# Altium footprint library ATK-2014-09-12.PcbLib: 436 footprints (part 15 of 28)
Each footprint in its own frame and in the unit in brackets; x right, y up, seen from the top. Pads: shape width x height; smd on the part's side, far side on the other; paste and mask are expansions set on the pad; w line width, h text height; cw(c..) or ccw(c..) is an arc to the next point about the centre after c.
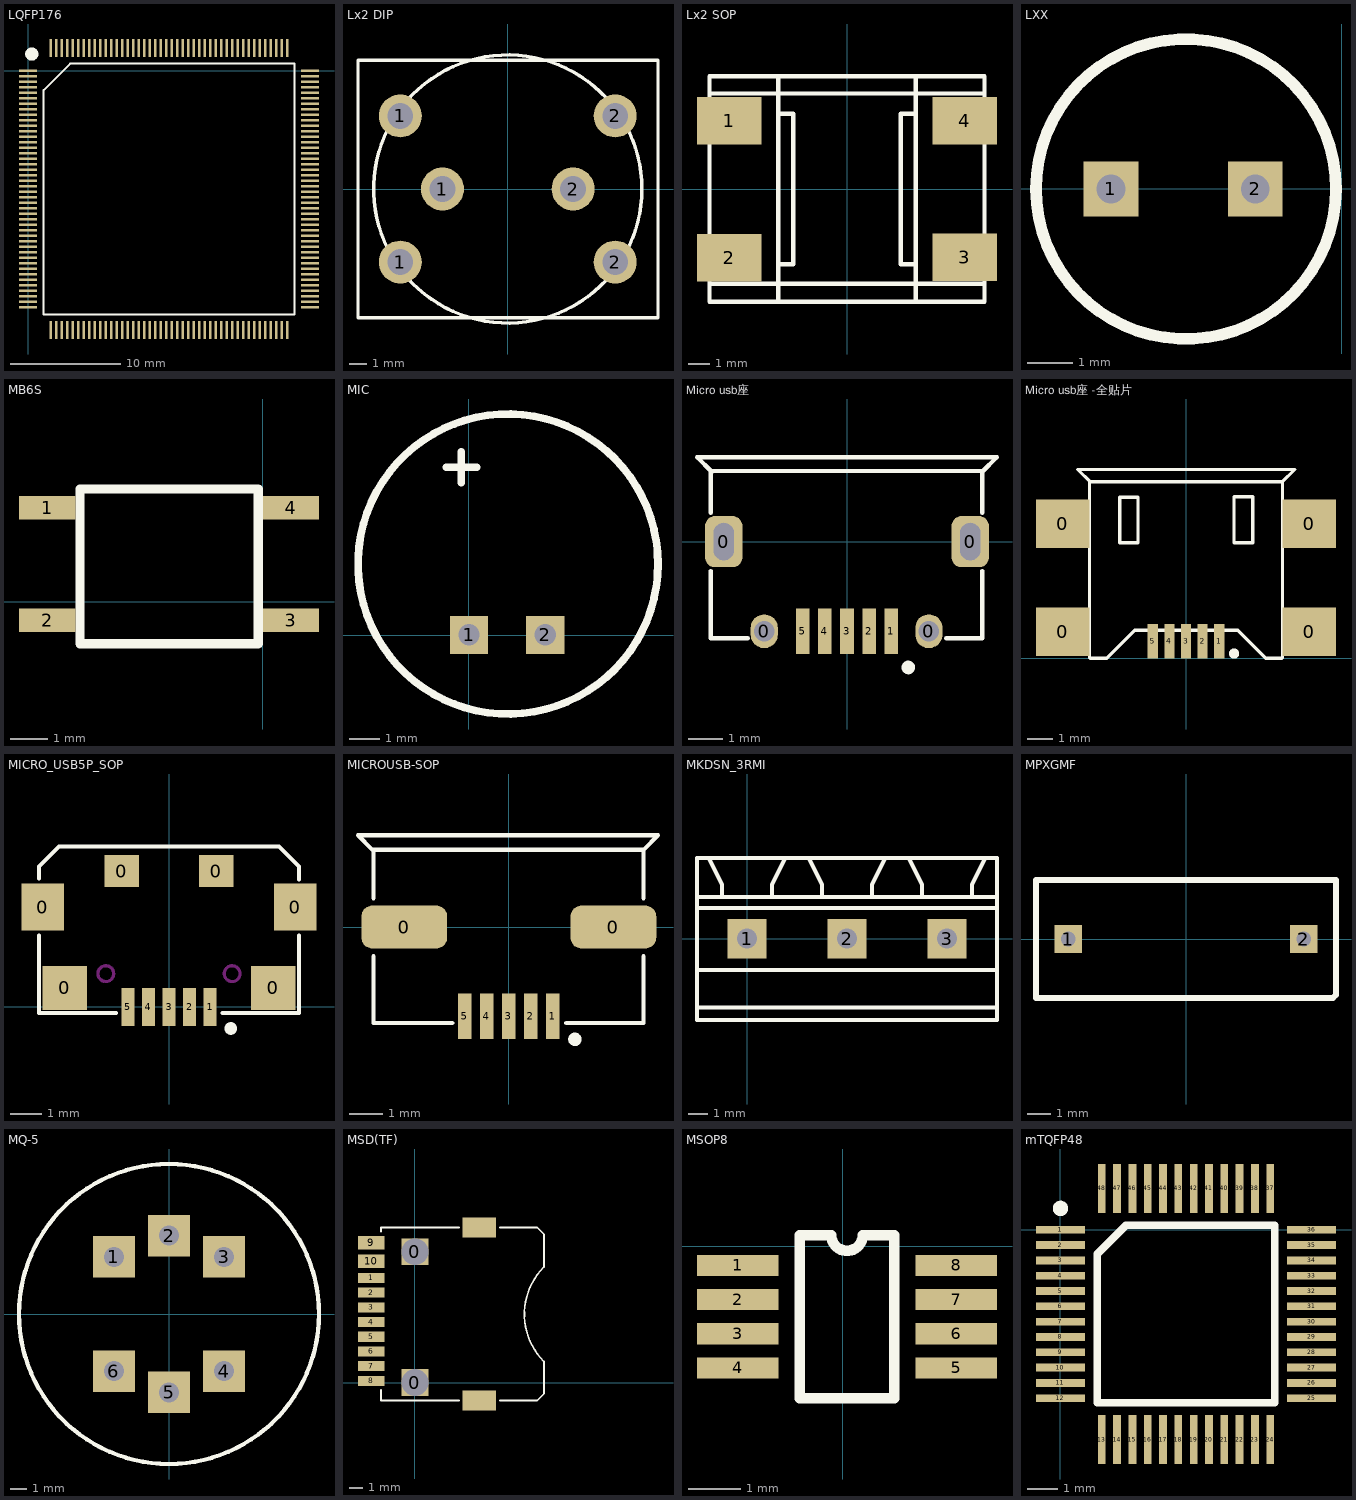
[diagram p14: the footprints below, top view; thin cyan lines are the x and y axes]

## LQFP176 [mm] "TSQFP, 176-Leads, Body 26.1x26.1mm (max), Pitch 0.50mm, IPC Medium Density"
height 1.6
pads (176):
  rect 1.65x0.254 smd: 1(0,0) 2(0,-0.5) 3(0,-1) 4(0,-1.5) 5(0,-2) 6(0,-2.5) 7(0,-3) 8(0,-3.5) 9(0,-4) 10(0,-4.5) 11(0,-5) 12(0,-5.5) 13(0,-6) 14(0,-6.5) 15(0,-7) 16(0,-7.5) 17(0,-8) 18(0,-8.5) 19(0,-9) 20(0,-9.5) 21(0,-10) 22(0,-10.5) 23(0,-11) 24(0,-11.5) 25(0,-12) 26(0,-12.5) 27(0,-13) 28(0,-13.5) 29(0,-14) 30(0,-14.5) 31(0,-15) 32(0,-15.5) 33(0,-16) 34(0,-16.5) 35(0,-17) 36(0,-17.5) 37(0,-18) 38(0,-18.5) 39(0,-19) 40(0,-19.5) 41(0,-20) 42(0,-20.5) 43(0,-21) 44(0,-21.5) 89(25.631,-21.5) 90(25.631,-21) 91(25.631,-20.5) 92(25.631,-20) 93(25.631,-19.5) 94(25.631,-19) 95(25.631,-18.5) 96(25.631,-18) 97(25.631,-17.5) 98(25.631,-17) 99(25.631,-16.5) 100(25.631,-16) 101(25.631,-15.5) 102(25.631,-15) 103(25.631,-14.5) 104(25.631,-14) 105(25.631,-13.5) 106(25.631,-13) 107(25.631,-12.5) 108(25.631,-12) 109(25.631,-11.5) 110(25.631,-11) 111(25.631,-10.5) 112(25.631,-10) 113(25.631,-9.5) 114(25.631,-9) 115(25.631,-8.5) 116(25.631,-8) 117(25.631,-7.5) 118(25.631,-7) 119(25.631,-6.5) 120(25.631,-6) 121(25.631,-5.5) 122(25.631,-5) 123(25.631,-4.5) 124(25.631,-4) 125(25.631,-3.5) 126(25.631,-3) 127(25.631,-2.5) 128(25.631,-2) 129(25.631,-1.5) 130(25.631,-1) 131(25.631,-0.5) 132(25.631,0)
  rect 0.254x1.65 smd: 45(2.066,-23.566) 46(2.565,-23.566) 47(3.066,-23.566) 48(3.565,-23.566) 49(4.066,-23.566) 50(4.566,-23.566) 51(5.065,-23.566) 52(5.566,-23.566) 53(6.065,-23.566) 54(6.566,-23.566) 55(7.066,-23.566) 56(7.565,-23.566) 57(8.066,-23.566) 58(8.565,-23.566) 59(9.065,-23.566) 60(9.566,-23.566) 61(10.065,-23.566) 62(10.566,-23.566) 63(11.065,-23.566) 64(11.565,-23.566) 65(12.066,-23.566) 66(12.565,-23.566) 67(13.066,-23.566) 68(13.565,-23.566) 69(14.065,-23.566) 70(14.566,-23.566) 71(15.065,-23.566) 72(15.566,-23.566) 73(16.066,-23.566) 74(16.565,-23.566) 75(17.066,-23.566) 76(17.565,-23.566) 77(18.066,-23.566) 78(18.566,-23.566) 79(19.065,-23.566) 80(19.566,-23.566) 81(20.065,-23.566) 82(20.566,-23.566) 83(21.066,-23.566) 84(21.565,-23.566) 85(22.066,-23.566) 86(22.565,-23.566) 87(23.066,-23.566) 88(23.566,-23.566) 133(23.566,2.066) 134(23.066,2.066) 135(22.565,2.066) 136(22.066,2.066) 137(21.565,2.066) 138(21.066,2.066) 139(20.566,2.066) 140(20.065,2.066) 141(19.566,2.066) 142(19.065,2.066) 143(18.566,2.066) 144(18.066,2.066) 145(17.565,2.066) 146(17.066,2.066) 147(16.565,2.066) 148(16.066,2.066) 149(15.566,2.066) 150(15.065,2.066) 151(14.566,2.066) 152(14.065,2.066) 153(13.565,2.066) 154(13.066,2.066) 155(12.565,2.066) 156(12.066,2.066) 157(11.565,2.066) 158(11.065,2.066) 159(10.566,2.066) 160(10.065,2.066) 161(9.566,2.066) 162(9.065,2.066) 163(8.565,2.066) 164(8.066,2.066) 165(7.565,2.066) 166(7.066,2.066) 167(6.566,2.066) 168(6.065,2.066) 169(5.566,2.066) 170(5.065,2.066) 171(4.566,2.066) 172(4.066,2.066) 173(3.565,2.066) 174(3.066,2.066) 175(2.565,2.066) 176(2.066,2.066)
Top Overlay:
  circle w0.6: c0.335,1.524 r0.3
  lines w0.2: 1.416,-22.15 24.215,-22.15 24.215,0.65 3.825,0.65 1.416,-1.759 1.416,-22.15

## Lx2 DIP [mm] "L=17.5mm  W=15mm  R= 8mm"
height 16
pads (6):
  round 2.5 hole 1.5: 1(-6.25,-4.25) 1(-6.25,4.25) 1(-3.8,0) 2(3.8,0) 2(6.25,-4.25) 2(6.25,4.25)
Top Overlay:
  circle w0.2: c0,0 r7.8
  lines w0.2: -8.712,-7.5 8.738,-7.5 8.738,7.5 -8.712,7.5 -8.712,-7.5

## Lx2 SOP [mm] "L=12.8mm  W=10.5mm"
height 10.2
pads (4):
  rect 3x2.2 smd: 1(-5.486,3.175) 2(-5.486,-3.2) 3(5.486,-3.175) 4(5.486,3.175)
Top Overlay:
  lines w0.2: -6.4,-4.42 6.4,-4.42 ; -6.4,4.445 6.4,4.445 ; -3.2,-5.25 -3.2,5.25 ; -3.2,-3.505 -3.195,-3.5 -2.5,-3.5 -2.5,3.5 -3.195,3.5 -3.2,3.505 ; 3.2,-5.25 3.2,5.25 ; 3.2,-3.505 3.195,-3.5 2.5,-3.5 2.5,3.5 3.195,3.5 3.2,3.505 ; -6.4,-5.25 6.4,-5.25 6.4,5.25 -6.4,5.25 -6.4,-5.25

## LXX [mm]
height 10
pads (2):
  rect 1.2x1.2 hole 0.635: 1(-5.08,0) 2(-1.905,0)
Top Overlay:
  circle w0.254: c-3.429,0 r3.302

## MB6S [mil]
height 78.74
pads (4):
  rect 60x25 smd: 1(-230,100) 2(-230,-20) 3(30,-20) 4(30,100)
Top Overlay:
  lines w10: -195,-45 -100,-45 -5,-45 -5,120 -195,120 -195,-45

## MIC [mil]
pads (2):
  rect 50x50 hole 28: 1(0.42,0.29) 2(100.42,0.29)
Top Overlay:
  circle w10: c51.58,93.29 r196.85
  lines w10: -29.58,220.29 10.42,220.29 ; -9.58,200.29 -9.58,240.29

## Micro usb座 [mm] "Micro usb座 5pin"
pads (9):
  rrect50% 1.1x1.5 hole 0.6 slot 1.1 at 90 deg: 0(-3.632,0) 0(3.632,0)
  oval 0.8x1 hole 0.6: 0(-2.438,-2.642) 0(2.413,-2.642)
  rect 0.4x1.35 smd: 1(1.3,-2.642) 2(0.65,-2.642) 3(0,-2.642) 4(-0.65,-2.642) 5(-1.3,-2.642)
Top Overlay:
  circle w0.2: c1.805,-3.708 r0.1
  lines w0.127: -4.013,-0.864 -4.013,-2.845 -2.921,-2.845 ; -4.013,0.851 -4.013,2.083 -2.438,2.083 ; -3.988,2.057 -4.42,2.489 4.42,2.489 3.988,2.057 ; -3.988,2.083 3.988,2.083 3.988,0.851 ; 2.921,-2.845 3.988,-2.845 3.988,-0.864

## Micro usb座 -全贴片 [mm]
pads (9):
  rect 2.1x1.9 smd: 0(-4.826,1.041) 0(-4.826,5.258) 0(4.826,1.041) 0(4.826,5.258)
  rect 0.4x1.35 smd: 1(1.3,0.66) 2(0.65,0.66) 3(0,0.66) 4(-0.65,0.66) 5(-1.3,0.66)
Top Overlay:
  circle w0.2: c1.881,0.178 r0.1
  lines w0.127: -3.759,6.909 -4.242,7.391 4.267,7.391 3.759,6.883 ; -3.785,0.025 -3.785,6.909 3.785,6.909 3.785,0.025 3.759,0 3.124,0 2.032,1.092 -2.007,1.092 -3.099,0 -3.124,0 -3.759,0 -3.785,0.025 ; -2.591,4.521 -1.88,4.521 -1.88,6.299 -2.591,6.299 -2.591,4.521 ; 1.88,4.521 1.88,6.325 2.616,6.325 2.616,4.521 1.88,4.521

## MICRO_USB5P_SOP [mm]
pads (11):
  rect 1.35x1.5 smd: 0(-4,3.16) 0(4,3.16)
  rect 1.4x1.4 smd: 0(-3.3,0.6) 0(3.3,0.6)
  rect 1.1x1 smd: 0(-1.5,4.3) 0(1.5,4.3)
  rect 0.4x1.2 smd: 1(1.3,0) 2(0.65,0) 3(0,0) 4(-0.65,0) 5(-1.3,0)
Top Overlay:
  circle w0.2: c1.957,-0.686 r0.1
  lines w0.127: -4.115,2.261 -4.115,-0.203 -1.676,-0.203 ; -4.115,4.064 -4.115,4.445 -3.48,5.08 3.48,5.08 4.115,4.445 4.115,4.039 ; 1.702,-0.203 4.115,-0.203 4.115,2.261
Keep-Out Layer:
  circle w0.1: c-2,1.05 r0.25
  circle w0.1: c2,1.05 r0.25

## MICROUSB-SOP [mm]
pads (7):
  rrect50% 2.54x1.27 smd: 0(-3.099,0) 0(3.099,0)
  rect 0.4x1.35 smd: 1(1.3,-2.642) 2(0.65,-2.642) 3(0,-2.642) 4(-0.65,-2.642) 5(-1.3,-2.642)
Top Overlay:
  circle w0.2: c1.957,-3.327 r0.1
  lines w0.127: -4.013,-0.864 -4.013,-2.845 -1.676,-2.845 ; -4.013,0.851 -4.013,2.286 ; 1.702,-2.845 3.988,-2.845 3.988,-0.864 ; 3.988,0.851 3.988,2.286 ; 3.988,2.286 4.42,2.718 -4.47,2.718 -4.039,2.286 3.988,2.286

## MKDSN_3RMI [mm]
pads (3):
  rect 2x2 hole 1: 1(0,0) 2(5.08,0) 3(10.16,0)
Top Overlay:
  lines w0.203: -2.54,-3.514 12.7,-3.514 ; -2.54,-1.609 12.7,-1.609 ; -2.54,1.566 12.7,1.566 ; -2.54,2.117 12.7,2.117 ; -1.905,4.022 -1.27,2.752 -1.27,2.117 ; 1.27,2.117 1.27,2.752 1.905,4.022 ; 3.175,4.022 3.81,2.752 3.81,2.117 ; 6.35,2.117 6.35,2.752 6.985,4.022 ; 8.255,4.022 8.89,2.752 8.89,2.117 ; 11.43,2.117 11.43,2.752 12.065,4.022 ; -2.54,-4.149 12.7,-4.149 12.7,4.106 -2.54,4.106 -2.54,-4.149

## MPXGMF [mm] "MPXGMF"
height 12
pads (2):
  rect 1.2x1.2 hole 0.635: 1(-5.08,0) 2(5.08,0)
Top Overlay:
  lines w0.254: -6.477,-2.54 -6.477,2.54 6.477,2.54 6.477,-2.413 6.35,-2.54 -6.477,-2.54

## MQ-5 [mm] "GAS_SENSOR"
height 17
pads (6):
  rect 2.5x2.5 hole 1.2: 1(-3.302,3.429) 2(0,4.699) 3(3.302,3.429) 4(3.302,-3.429) 5(0,-4.699) 6(-3.302,-3.429)
Top Overlay:
  circle w0.254: c0,0 r9

## MSD(TF) [mm]
pads (14):
  rect 2x2 hole 2: 0(0,0) 0(0,9.779)
  rect 2x0.75 smd: 1(-3.26,7.829) 2(-3.26,6.729) 3(-3.26,5.629) 4(-3.26,4.529) 5(-3.26,3.429) 6(-3.26,2.329) 7(-3.26,1.229) 8(-3.26,0.129)
  rect 2x1 smd: 9(-3.26,10.465) 10(-3.26,9.08)
  rect 2.5x1.5 smd: ""(4.826,-1.346) ""(4.826,11.608)
Top Overlay:
  lines w0.127: -2.54,-1.346 3.302,-1.346 ; -2.54,11.303 -2.54,11.608 3.302,11.608 ; -2.535,-1.346 -2.535,-0.546 ; 6.35,-1.346 9.144,-1.346 9.652,-0.838 9.652,1.321 9.652,1.575 cw(c13.188,5.11) 9.652,8.646 9.652,11.1 9.144,11.608 6.35,11.608

## MSOP8 [mm] "Shrink Small Outline, MSOP; 8 Leads; Body Width 3 mm; Pitch 0.65 mm"
height 1.1
pads (8):
  rect 1.55x0.4 smd: 1(-1.991,-0.366) 2(-1.991,-1.016) 3(-1.991,-1.666) 4(-1.991,-2.316) 5(2.159,-2.316) 6(2.159,-1.666) 7(2.159,-1.016) 8(2.159,-0.366)
Top Overlay:
  lines w0.2: -0.816,-2.891 0.984,-2.891 0.984,0.209 0.384,0.209 cw(c0.084,0.209) -0.216,0.209 -0.816,0.209 -0.816,-2.891

## mTQFP48 [mm] "5.8mm"
height 1
pads (48):
  rect 1.6x0.254 smd: 1(0,0) 2(0,-0.5) 3(0,-1) 4(0,-1.5) 5(0,-2) 6(0,-2.5) 7(0,-3) 8(0,-3.5) 9(0,-4) 10(0,-4.5) 11(0,-5) 12(0,-5.5) 25(8.2,-5.5) 26(8.2,-5) 27(8.2,-4.5) 28(8.2,-4) 29(8.2,-3.5) 30(8.2,-3) 31(8.2,-2.5) 32(8.2,-2) 33(8.2,-1.5) 34(8.2,-1) 35(8.2,-0.5) 36(8.2,0)
  rect 0.254x1.6 smd: 13(1.35,-6.85) 14(1.85,-6.85) 15(2.35,-6.85) 16(2.85,-6.85) 17(3.35,-6.85) 18(3.85,-6.85) 19(4.35,-6.85) 20(4.85,-6.85) 21(5.35,-6.85) 22(5.85,-6.85) 23(6.35,-6.85) 24(6.85,-6.85) 37(6.85,1.35) 38(6.35,1.35) 39(5.85,1.35) 40(5.35,1.35) 41(4.85,1.35) 42(4.35,1.35) 43(3.85,1.35) 44(3.35,1.35) 45(2.85,1.35) 46(2.35,1.35) 47(1.85,1.35) 48(1.35,1.35)
Top Overlay:
  circle w0.25: c0,0.7 r0.125
  lines w0.2: 1.2,-5.65 7,-5.65 7,0.15
  lines w0.254: 1.2,-0.792 2.142,0.15 ; 1.2,-0.792 1.2,-5.65 7,-5.65 7,0.15 2.826,0.15 2.142,0.15 ; 1.2,-0.792 2.142,0.15